# Altium integrated library BSP250,135 v2.0.IntLib: 1 symbol
Pins are listed as number, name and electrical type; pins without a type are passive.

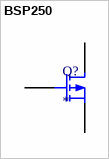
[diagram p0: symbol BSP250]

## BSP250
designator Q?
footprint SOT230P700X180-4N
pins: 1 G, 2 D, 3 S